# Altium footprint library AS-205.PcbLib: 1 footprints
Each footprint in its own frame and in the unit in brackets; x right, y up, seen from the top. Pads: shape width x height; smd on the part's side, far side on the other; paste and mask are expansions set on the pad; w line width, h text height; cw(c..) or ccw(c..) is an arc to the next point about the centre after c.
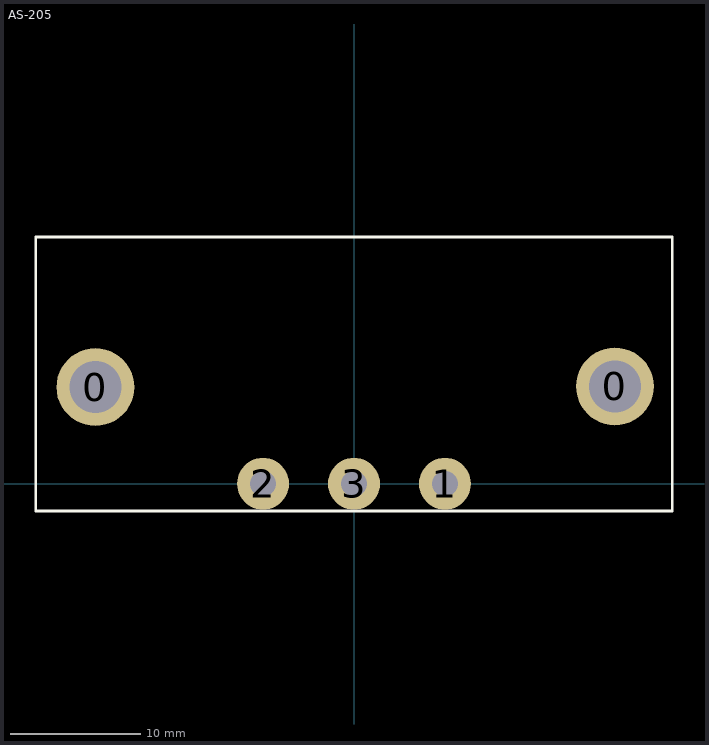
[diagram p0: the footprint, top view; thin cyan lines are the x and y axes]

## AS-205 [mm]
pads (5):
  round 6 hole 4: 0(-19.914,7.442) 0(20.091,7.493)
  round 4 hole 2: 1(7,0) 2(-7,0) 3(0,0)
Top Overlay:
  lines w0.2: -24.5,-2.1 24.5,-2.1 24.5,19 -24.5,19 -24.5,-2.1
3D body "AS-205.STEP": height 26.8, standoff -3.8, extent -24.424,-1.905 24.576,19.095